# EAGLE library part ST1S06XX (library STMicroelectrionics)
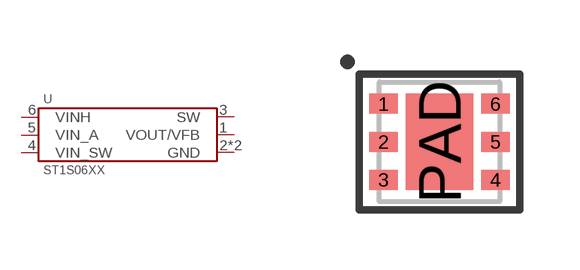
[diagram p6: symbol with the pads of DFN-6-3MM; footprint DFN-6-3MM]

Designator prefix U

## ST1S06XX  [DFN-6-3MM]
1  VOUT/VFB
2  GND
3  SW
4  VIN_SW
5  VIN_A
6  VINH
PAD  GND

## Footprint DFN-6-3MM (pad centres in mm)
smd 0.7 x 0.5: 1 -1.4,0.95; 2 -1.4,0; 3 -1.4,-0.95; 4 1.4,-0.95; 5 1.4,0; 6 1.4,0.95
smd 1.695 x 2.4: PAD 0,0